# EAGLE library part E220-900T22D (library buksir)
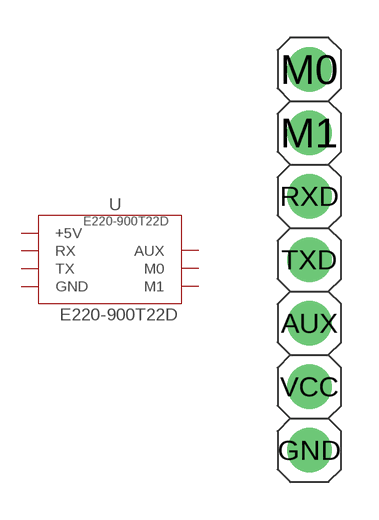
[diagram p2: symbol with the pads of E220-900T22D; footprint E220-900T22D]

Designator prefix U

## E220-900T22D  [E220-900T22D]
AUX  AUX
GND  GND
M0  M0
M1  M1
RXD  RX
TXD  TX
VCC  +5V

## Footprint E220-900T22D (pad centres in mm)
drill 0.9 pad 1.778: AUX 1.524,-2.54; GND 1.524,-7.62; M0 1.524,7.62; M1 1.524,5.08; RXD 1.524,2.54; TXD 1.524,0; VCC 1.524,-5.08